# EAGLE library part USBUF (library st-microelectronics)
EMI filter and line termination for USB upstream ports The USB specification requires upstream ports to be terminated with pull-up resistors from the D+ and D- lines to Vbus. On the implementation of USB systems, the radiated and conducted EMI should be kept within the required levels as stated by the FCC regulations. In addition to the requirements of termination and EMC compatibility, the computing devices are required to be tested for ESD susceptibility. The USBUF provides the recommended line termination while implementing a low pass filter to limit EMI levels and providing ESD protection which exceeds IEC 61000-4-2 level 4 standard. The device is packaged in a SOT323-6L which is the smallest available lead frame package (50% smaller than the standard SOT23).
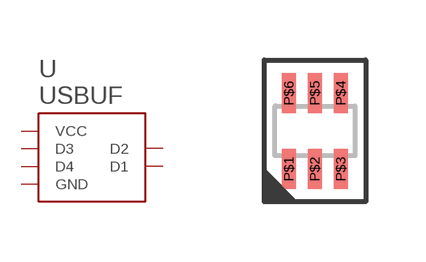
[diagram p1: symbol with the pads of SOT323-6L; footprint SOT323-6L]

Designator prefix U

## USBUF  [SOT323-6L]
P$1  D1  out
P$2  GND  pwr
P$3  D2  out
P$4  D3  in
P$5  VCC  pwr
P$6  D4  in

## Footprint SOT323-6L (pad centres in mm)
smd 0.35 x 1: P$1 -0.65,-0.95; P$2 0,-0.95; P$3 0.65,-0.95; P$4 0.65,0.95; P$5 0,0.95; P$6 -0.65,0.95